# Altium schematic symbol library DMC2400.SchLib: 1 symbol
Pins are listed as number, name and electrical type; pins without a type are passive.

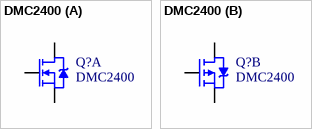
[diagram p0: symbol DMC2400]

## DMC2400
designator Q?
HEXFET Power MOSFET; value: *
footprint SOT-563-6 (DRL0006A) (SOT563, 6-Leads, Body 1.2x1.6mm, Pitch 0.50mm, IPC Medium Density)
part A pins: 1 S, 2 G, 6 D
part B pins: 3 D, 4 S, 5 G